# EAGLE library part TLV27X-OP-AMPS (library adam - ics)
TLV272 rail to rail audio quality opamp
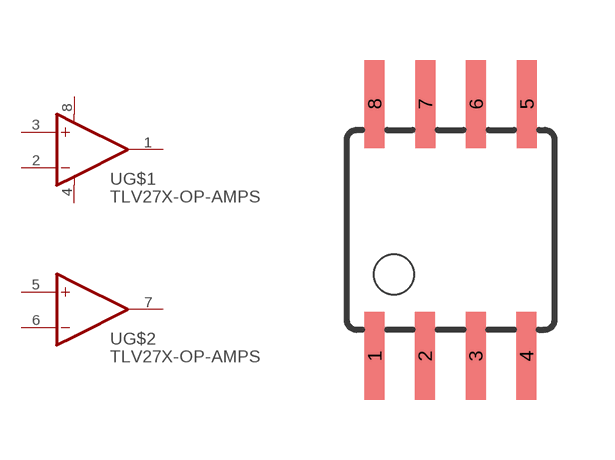
[diagram p5: symbol with the pads of SOIC8; footprint SOIC8]

Designator prefix -; gates G$1=OPAMP-SUPP G$2=OPAMP-NOSUPP

## TLV27X-OP-AMPS  [SOIC8]
1  G$1:OUT  out
2  G$1:-IN  in
3  G$1:+IN  in
4  G$1:V-  pwr
5  G$2:+IN  in
6  G$2:-IN  in
7  G$2:OUT  out
8  G$1:V+  pwr

## Footprint SOIC8 (pad centres in mm)
Wide Plastic Gull Wing Small Outline Package
smd 0.5 x 2.2: 1 -1.905,-3.154; 2 -0.645,-3.154; 3 0.625,-3.154; 4 1.895,-3.154; 5 1.905,3.154; 6 0.635,3.154; 7 -0.635,3.154; 8 -1.905,3.154